# Altium footprint library MT25QL512ABB8ESF-0SITTR.PcbLib: 3 footprints
Each footprint in its own frame and in the unit in brackets; x right, y up, seen from the top. Pads: shape width x height; smd on the part's side, far side on the other; paste and mask are expansions set on the pad; w line width, h text height; cw(c..) or ccw(c..) is an arc to the next point about the centre after c.
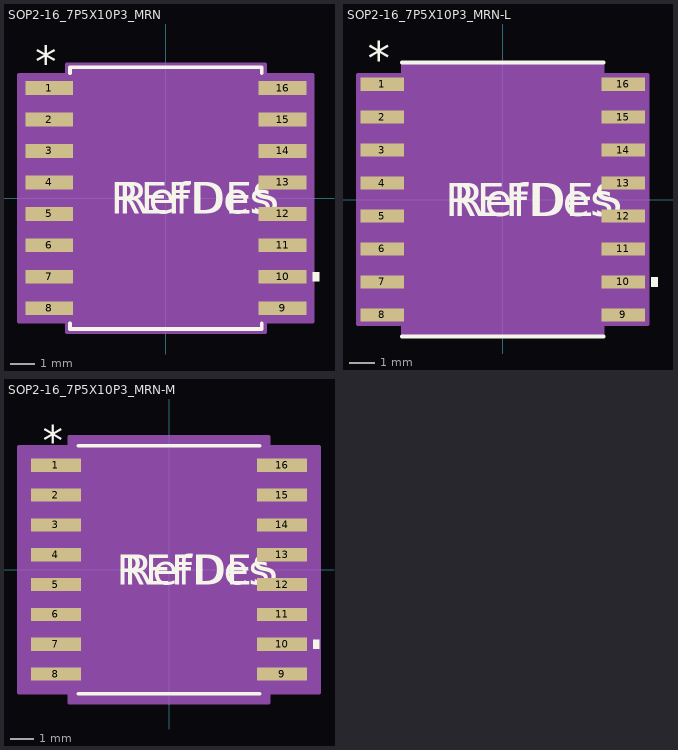
[diagram p0: the footprints below, top view; thin cyan lines are the x and y axes]

## SOP2-16_7P5X10P3_MRN [mil]
pads (16):
  rect 76x22 smd paste+0 mask+0: 1(-185.5,175) 2(-185.5,125) 3(-185.5,75) 4(-185.5,25) 5(-185.5,-25) 6(-185.5,-75) 7(-185.5,-125) 8(-185.5,-175) 9(185.5,-175) 10(185.5,-125) 11(185.5,-75) 12(185.5,-25) 13(185.5,25) 14(185.5,75) 15(185.5,125) 16(185.5,175)
Top Overlay:
  region: 233.5,-117.5 243.5,-117.5 243.5,-132.5 233.5,-132.5
  lines w6: -152.5,-199.1 -152.5,-208 152.5,-208 152.5,-199.1 ; -152.5,199.1 -152.5,208 152.5,208 152.5,199.1
  text "REFDES" at -87.5,-25 h50
  text "*" at -208,192 h50
  text "RefDes" at -75,-25 h50
Mechanical 13:
  lines w0: -12,203 ccw(c0,203) 12,203
  lines w1: -209.5,-185 -209.5,-165 -147.5,-165 -147.5,-185 -209.5,-185 ; -209.5,-135 -209.5,-115 -147.5,-115 -147.5,-135 -209.5,-135 ; -209.5,-85 -209.5,-65 -147.5,-65 -147.5,-85 -209.5,-85 ; -209.5,-35 -209.5,-15 -147.5,-15 -147.5,-35 -209.5,-35 ; -209.5,15 -209.5,35 -147.5,35 -147.5,15 -209.5,15 ; -209.5,65 -209.5,85 -147.5,85 -147.5,65 -209.5,65 ; -209.5,115 -209.5,135 -147.5,135 -147.5,115 -209.5,115 ; -209.5,165 -209.5,185 -147.5,185 -147.5,165 -209.5,165 ; -147.5,-203 147.5,-203 147.5,203 -147.5,203 -147.5,-203 ; 147.5,-185 147.5,-165 209.5,-165 209.5,-185 147.5,-185 ; 147.5,-135 147.5,-115 209.5,-115 209.5,-135 147.5,-135 ; 147.5,-85 147.5,-65 209.5,-65 209.5,-85 147.5,-85 ; 147.5,-35 147.5,-15 209.5,-15 209.5,-35 147.5,-35 ; 147.5,15 147.5,35 209.5,35 209.5,15 147.5,15 ; 147.5,65 147.5,85 209.5,85 209.5,65 147.5,65 ; 147.5,115 147.5,135 209.5,135 209.5,115 147.5,115 ; 147.5,165 147.5,185 209.5,185 209.5,165 147.5,165
  text "*" at -145,150 h50
  text "RefDes2" at -87.5,-25 h50
Mechanical 15:
  region: -157.5,-196 -233.5,-196 -233.5,196 -157.5,196 -157.5,213 157.5,213 157.5,196 233.5,196 233.5,-196 157.5,-196 157.5,-213 -157.5,-213
  lines w6: -233.5,-196 -233.5,196 -157.5,196 -157.5,213 157.5,213 157.5,196 233.5,196 233.5,-196 157.5,-196 157.5,-213 -157.5,-213 -157.5,-196 -233.5,-196
3D body "SOP2-16_7P5X10P3_MRN.step": height 108.11, standoff 0, extent -209.49,-202.99 209.49,202.99

## SOP2-16_7P5X10P3_MRN-L [mil]
pads (16):
  rect 66x20 smd paste+0 mask+0: 1(-182.5,175) 2(-182.5,125) 3(-182.5,75) 4(-182.5,25) 5(-182.5,-25) 6(-182.5,-75) 7(-182.5,-125) 8(-182.5,-175) 9(182.5,-175) 10(182.5,-125) 11(182.5,-75) 12(182.5,-25) 13(182.5,25) 14(182.5,75) 15(182.5,125) 16(182.5,175)
Top Overlay:
  region: 225.5,-117.5 235.5,-117.5 235.5,-132.5 225.5,-132.5
  lines w6: -152.5,-208 152.5,-208 ; -152.5,208 152.5,208
  text "REFDES" at -87.5,-25 h50
  text "*" at -205,190 h50
  text "RefDes" at -75,-25 h50
Mechanical 13:
  lines w0: -12,203 ccw(c0,203) 12,203
  lines w1: -209.5,-185 -209.5,-165 -147.5,-165 -147.5,-185 -209.5,-185 ; -209.5,-135 -209.5,-115 -147.5,-115 -147.5,-135 -209.5,-135 ; -209.5,-85 -209.5,-65 -147.5,-65 -147.5,-85 -209.5,-85 ; -209.5,-35 -209.5,-15 -147.5,-15 -147.5,-35 -209.5,-35 ; -209.5,15 -209.5,35 -147.5,35 -147.5,15 -209.5,15 ; -209.5,65 -209.5,85 -147.5,85 -147.5,65 -209.5,65 ; -209.5,115 -209.5,135 -147.5,135 -147.5,115 -209.5,115 ; -209.5,165 -209.5,185 -147.5,185 -147.5,165 -209.5,165 ; -147.5,-203 147.5,-203 147.5,203 -147.5,203 -147.5,-203 ; 147.5,-185 147.5,-165 209.5,-165 209.5,-185 147.5,-185 ; 147.5,-135 147.5,-115 209.5,-115 209.5,-135 147.5,-135 ; 147.5,-85 147.5,-65 209.5,-65 209.5,-85 147.5,-85 ; 147.5,-35 147.5,-15 209.5,-15 209.5,-35 147.5,-35 ; 147.5,15 147.5,35 209.5,35 209.5,15 147.5,15 ; 147.5,65 147.5,85 209.5,85 209.5,65 147.5,65 ; 147.5,115 147.5,135 209.5,135 209.5,115 147.5,115 ; 147.5,165 147.5,185 209.5,185 209.5,165 147.5,165
  text "*" at -145,150 h50
  text "RefDes2" at -87.5,-25 h50
Mechanical 15:
  region: -151.5,-189 -219.5,-189 -219.5,189 -151.5,189 -151.5,207 151.5,207 151.5,189 219.5,189 219.5,-189 151.5,-189 151.5,-207 -151.5,-207
  lines w6: -219.5,-189 -219.5,189 -151.5,189 -151.5,207 151.5,207 151.5,189 219.5,189 219.5,-189 151.5,-189 151.5,-207 -151.5,-207 -151.5,-189 -219.5,-189
3D body "SOP2-16_7P5X10P3_MRN.step": height 108.11, standoff 0, extent -209.49,-202.99 209.49,202.99

## SOP2-16_7P5X10P3_MRN-M [mil]
pads (16):
  rect 84x22 smd paste+0 mask+0: 1(-189.5,175) 2(-189.5,125) 3(-189.5,75) 4(-189.5,25) 5(-189.5,-25) 6(-189.5,-75) 7(-189.5,-125) 8(-189.5,-175) 9(189.5,-175) 10(189.5,-125) 11(189.5,-75) 12(189.5,-25) 13(189.5,25) 14(189.5,75) 15(189.5,125) 16(189.5,175)
Top Overlay:
  region: 241.5,-117.5 251.5,-117.5 251.5,-132.5 241.5,-132.5
  lines w6: -152.5,-208 152.5,-208 ; -152.5,208 152.5,208
  text "REFDES" at -87.5,-25 h50
  text "*" at -212,192 h50
  text "RefDes" at -75,-25 h50
Mechanical 13:
  lines w0: -12,203 ccw(c0,203) 12,203
  lines w1: -209.5,-185 -209.5,-165 -147.5,-165 -147.5,-185 -209.5,-185 ; -209.5,-135 -209.5,-115 -147.5,-115 -147.5,-135 -209.5,-135 ; -209.5,-85 -209.5,-65 -147.5,-65 -147.5,-85 -209.5,-85 ; -209.5,-35 -209.5,-15 -147.5,-15 -147.5,-35 -209.5,-35 ; -209.5,15 -209.5,35 -147.5,35 -147.5,15 -209.5,15 ; -209.5,65 -209.5,85 -147.5,85 -147.5,65 -209.5,65 ; -209.5,115 -209.5,135 -147.5,135 -147.5,115 -209.5,115 ; -209.5,165 -209.5,185 -147.5,185 -147.5,165 -209.5,165 ; -147.5,-203 147.5,-203 147.5,203 -147.5,203 -147.5,-203 ; 147.5,-185 147.5,-165 209.5,-165 209.5,-185 147.5,-185 ; 147.5,-135 147.5,-115 209.5,-115 209.5,-135 147.5,-135 ; 147.5,-85 147.5,-65 209.5,-65 209.5,-85 147.5,-85 ; 147.5,-35 147.5,-15 209.5,-15 209.5,-35 147.5,-35 ; 147.5,15 147.5,35 209.5,35 209.5,15 147.5,15 ; 147.5,65 147.5,85 209.5,85 209.5,65 147.5,65 ; 147.5,115 147.5,135 209.5,135 209.5,115 147.5,115 ; 147.5,165 147.5,185 209.5,185 209.5,165 147.5,165
  text "*" at -145,150 h50
  text "RefDes2" at -87.5,-25 h50
Mechanical 15:
  region: -167.5,-206 -251.5,-206 -251.5,206 -167.5,206 -167.5,223 167.5,223 167.5,206 251.5,206 251.5,-206 167.5,-206 167.5,-223 -167.5,-223
  lines w6: -251.5,-206 -251.5,206 -167.5,206 -167.5,223 167.5,223 167.5,206 251.5,206 251.5,-206 167.5,-206 167.5,-223 -167.5,-223 -167.5,-206 -251.5,-206
3D body "SOP2-16_7P5X10P3_MRN.step": height 108.11, standoff 0, extent -209.49,-202.99 209.49,202.99